# Altium schematic symbol library IPD640N06L G.SchLib: 1 symbol
Pins are listed as number, name and electrical type; pins without a type are passive.

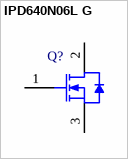
[diagram p0: symbol IPD640N06L G]

## IPD640N06L G
designator Q?
N-Channel OptiMOS Power-Transistor, 60 V VDS, 18 A ID, -55 to 175 degC, PG-TO252-3-11, Reel, Green; Manufacturer: Infineon; PartNumber: IPD640N06L G; Green: TRUE; ID (max): 18 A; IDpuls (max): 72 A; Polarity: N; Ptot (max): 47 W; QG: 10 nC; RDS (on) (max): 64 mOhm; RDS (on) (max) (@4.5V): 85 mOhm; Rth: 3.2 K/W; RthJA (max): 75 K/W; VDS (max): 60 V; VGS(th) (max): 2 V; VGS(th) (min): 1.2 V; DatasheetVersion: Rev. 1.4; PackageVersion: Rev. 02, 03/2007; PackageReference: PG-TO252-3-11; PackageDescription: 3-Pin Plastic (Green) Transistor Single Outline Package, 6.57 x 6.1 mm Body, 2.29 mm Pitch; Supplier 1: Digi-Key; Supplier Part Number 1: IPD640N06LGINTR-ND; Supplier 2: Digi-Key; Supplier Part Number 2: IPD640N06LGINCT-ND; Supplier 3: Digi-Key; Supplier Part Number 3: IPD640N06LGINDKR-ND; Supplier 4: Farnell; Supplier Part Number 4: 2212871; Supplier 5: Newark; Supplier Part Number 5: 47W3475; Packing: Reel; RthJC (max): 3.2 K/W; Mounting Technology: Surface Mount; ComponentLink1Description: Manufacturer URL; ComponentLink1URL: http://www.infineon.com/; ComponentLink2Description: Datasheet; ComponentLink2URL: http://www.infineon.com/dgdl/IPD640N06L%2BG%2BRev1.4.pdf?folderId=db3a30431ddc9372011ebafa04517f8b&fileId=db3a30431f848401011fcafb4ac00440; ComponentLink3Description: Package Specification; ComponentLink3URL: http://www.infineon.com/dgdl/IPD160N04L_rev1.0.pdf?folderId=db3a3043163797a6011643468e7505a4&fileId=db3a3043163797a60116436401cf05cf
footprint INF-PG-TO252-3-11_A_N (DPAK, 3-Leads, Body 6.57x6.1mm, Pitch 2.29mm, IPC Medium Density)
footprint INF-PG-TO252-3-11_A_L (DPAK, 3-Leads, Body 6.57x6.1mm, Pitch 2.29mm, IPC High Density)
footprint INF-PG-TO252-3-11_A_M (DPAK, 3-Leads, Body 6.57x6.1mm, Pitch 2.29mm, IPC Low Density)
pins: 1 GATE, 2 DRAIN, 3 SOURCE